# Altium schematic symbol library QUTMS_IsolatedPowerSupply.SchLib: 1 symbol
Pins are listed as number, name and electrical type; pins without a type are passive.

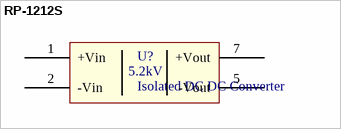
[diagram p0: symbol RP-1212S]

## RP-1212S
designator U?, comment Isolated DC DC Converter
ComponentLink1Description: DigiKey; ComponentLink1URL: https://www.digikey.com.au/product-detail/en/recom-power/RP-1212S/945-1254-ND/2256434; ComponentLink2Description: Datasheet; ComponentLink2URL: https://www.recom-power.com/pdf/Econoline/RP.pdf
footprint RP1212S
pins: 1 +Vin, 2 -Vin, 5 -Vout, 7 +Vout
text: 5.2kV